# Altium schematic symbol library CFSH05-20L.SchLib: 1 symbol
Pins are listed as number, name and electrical type; pins without a type are passive.

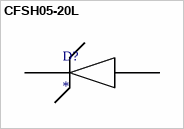
[diagram p0: symbol CFSH05-20L]

## CFSH05-20L
designator D?
PartNumber: CFSH05-20L TR PBFREE; Manufacturer: Central Semiconductor Corp; PartDescription: DIODE SCHOTTKY 20V 500MA SOD882; Package Type: SOD 882; Supplier 1: Digi-Key; Supplier Part Number 1: 1514-CFSH05-20LTRPBFREECT-ND
footprint SOD-882L
pins: 1, 2